# Altium schematic symbol library vhs-door-nfc.SchLib: 13 symbols
Pins are listed as number, name and electrical type; pins without a type are passive.

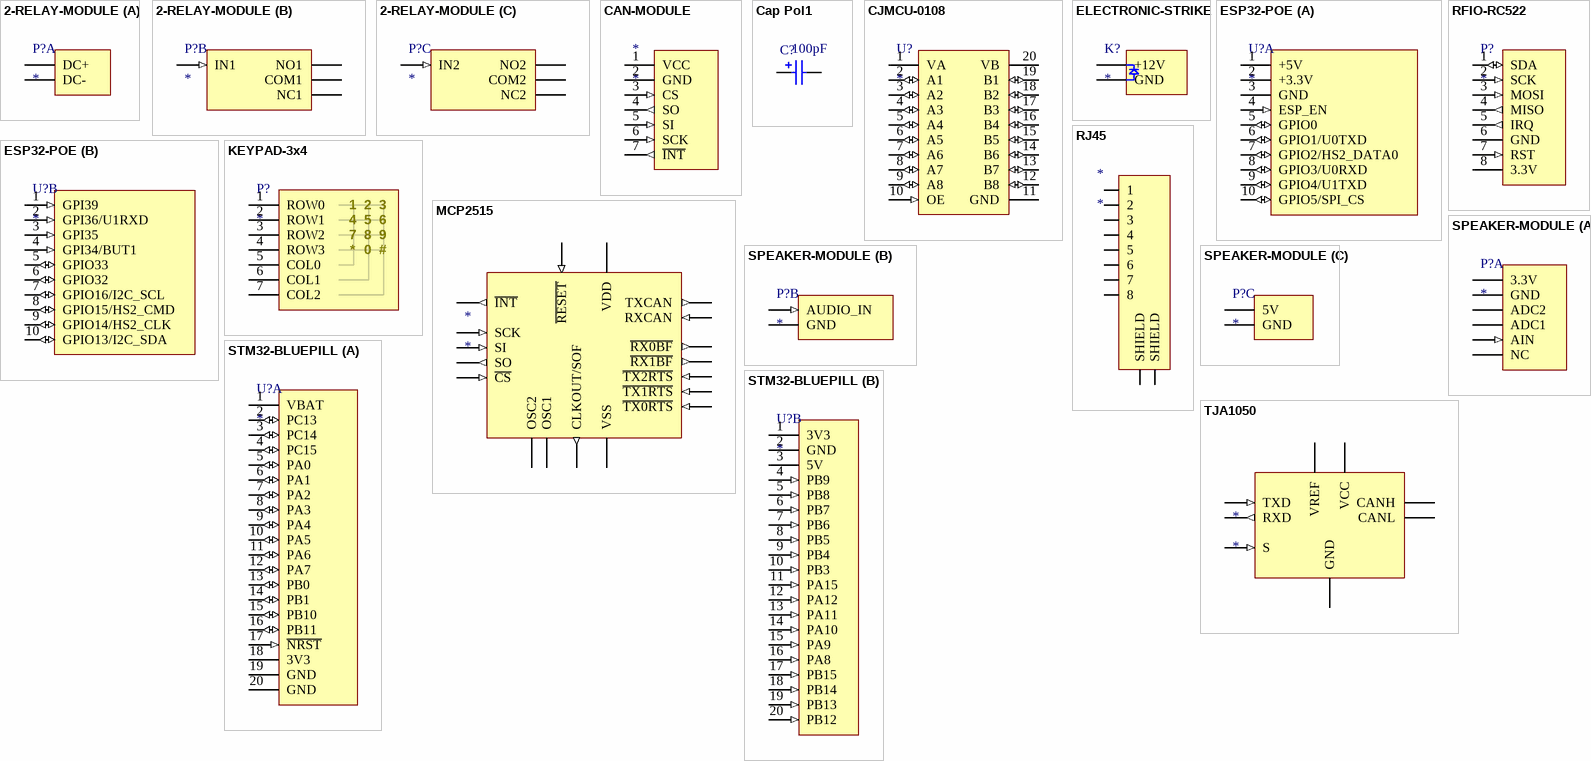
[diagram p0: symbols 2-RELAY-MODULE to TJA1050]

## 2-RELAY-MODULE
designator P?
Dual relay module
part A pins: 1 DC+ (power), 2 DC- (power)
part B pins: 1 IN1 (in), 2 NO1, 3 COM1, 4 NC1
part C pins: 1 IN2 (in), 2 NO2, 3 COM2, 4 NC2

## CAN-MODULE
designator *
pins: 1 VCC (power), 2 GND (power), 3 CS (in), 4 SO (out), 5 SI (in), 6 SCK (in), 7 ~{INT} (out)

## Cap Pol1
designator C?  value 100pF
Polarized Capacitor (Radial); Published: 8-Jun-2000; LatestRevisionDate: 17-Jul-2002; LatestRevisionNote: Re-released for DXP Platform.; PackageReference: RB7.6-15; Publisher: Altium Limited; PackageDescription: Polarized Capacitor (Radial); 2 Leads
footprint RB7.6-15 (Polarized Capacitor (Radial); 2 Leads)
simulation model CAP (Capacitor)
signal-integrity model Cap Pol
pins: 1, 2
1 alternate drawing of the same symbol

## CJMCU-0108
designator U?
TXS0108E 8 channel logic level converter
pins: 1 VA (power), 2 A1 (io), 3 A2 (io), 4 A3 (io), 5 A4 (io), 6 A5 (io), 7 A6 (io), 8 A7 (io), 9 A8 (io), 10 OE (in), 11 GND (power), 12 B8 (io), 13 B7 (io), 14 B6 (io), 15 B5 (io), 16 B4 (io), 17 B3 (io), 18 B2 (io), 19 B1 (io), 20 VB (power)

## ELECTRONIC-STRIKE
designator K?
12V electronic strike
pins: 1 +12V (power), 2 GND (power)

## ESP32-POE
designator U?
Olimex ESP32-POE
part A pins: 1 +5V (power), 2 +3.3V (power), 3 GND (power), 4 ESP_EN (in), 5 GPIO0 (io), 6 GPIO1/U0TXD (io), 7 GPIO2/HS2_DATA0 (io), 8 GPIO3/U0RXD (io), 9 GPIO4/U1TXD (io), 10 GPIO5/SPI_CS (io)
part B pins: 1 GPI39 (in), 2 GPI36/U1RXD (in), 3 GPI35 (in), 4 GPI34/BUT1 (in), 5 GPIO33 (io), 6 GPIO32 (io), 7 GPIO16/I2C_SCL (io), 8 GPIO15/HS2_CMD (io), 9 GPIO14/HS2_CLK (io), 10 GPIO13/I2C_SDA (io)

## KEYPAD-3x4
designator P?
3x4 matrix keypad
pins: 1 ROW0, 2 ROW1, 3 ROW2, 4 ROW3, 5 COL0, 6 COL1, 7 COL2
text: 8; 9; 0; #

## MCP2515
designator *
pins: 1 TXCAN (out), 2 RXCAN (in), 3 CLKOUT/SOF (out), 4 ~{TX0RTS} (in), 5 ~{TX1RTS} (in), 6 ~{TX2RTS} (in), 7 OSC2, 8 OSC1, 9 VSS (power), 10 ~{RX1BF} (out), 11 ~{RX0BF} (out), 12 ~{INT} (out), 13 SCK (in), 14 SI (in), 15 SO (out), 16 ~{CS} (in), 17 ~{RESET} (in), 18 VDD (power)

## RFIO-RC522
designator P?
RFIO-RC522 MFRC522
pins: 1 SDA (io), 2 SCK (in), 3 MOSI (in), 4 MISO (out), 5 IRQ (out), 6 GND (power), 7 RST (in), 8 3.3V (power)

## RJ45
designator *
pins: 1 (io), 2 (io), 3 (io), 4 (io), 5 (io), 6 (io), 7 (io), 8 (io), 9 SHIELD, 10 SHIELD

## SPEAKER-MODULE
designator P?
Speaker
part A pins: 1 3.3V (power), 2 GND (power), 3 ADC2, 4 ADC1, 5 AIN (in), 6 NC
part B pins: 1 AUDIO_IN (in), 2 GND (power)
part C pins: 1 5V (power), 2 GND (power)

## STM32-BLUEPILL
designator U?
STM32 Bluepill
part A pins: 1 VBAT (power), 2 PC13 (io), 3 PC14 (io), 4 PC15 (io), 5 PA0 (io), 6 PA1 (io), 7 PA2 (io), 8 PA3 (io), 9 PA4 (io), 10 PA5 (io), 11 PA6 (io), 12 PA7 (io), 13 PB0 (io), 14 PB1 (io), 15 PB10 (io), 16 PB11 (io), 17 ~{NRST} (in), 18 3V3 (power), 19 GND (power), 20 GND (power)
part B pins: 1 3V3 (power), 2 GND (power), 3 5V (power), 4 PB9 (in), 5 PB8 (in), 6 PB7 (in), 7 PB6 (in), 8 PB5 (in), 9 PB4 (in), 10 PB3 (in), 11 PA15 (in), 12 PA12 (in), 13 PA11 (in), 14 PA10 (in), 15 PA9 (in), 16 PA8 (in), 17 PB15 (in), 18 PB14 (in), 19 PB13 (in), 20 PB12 (in)

## TJA1050
designator *
pins: 1 TXD (in), 2 GND (power), 3 VCC (power), 4 RXD (out), 5 VREF (power), 6 CANL, 7 CANH, 8 S (in)